# EAGLE library part MAX173* (library Maxim Integrated)
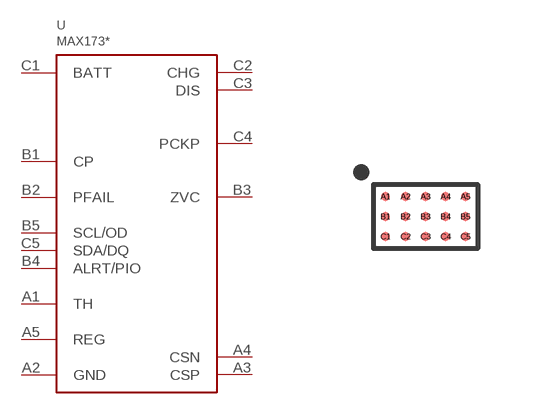
[diagram p7: symbol with the pads of WLP15-1.6; footprint WLP15-1.6]

Designator prefix U

## MAX17300X, MAX17310X  [WLP15-1.6]
A1  TH
A2  GND
A3  CSP
A4  CSN
A5  REG
B1  CP
B2  PFAIL
B3  ZVC
B4  ALRT/PIO
B5  SCL/OD
C1  BATT
C2  CHG
C3  DIS
C4  PCKP
C5  SDA/DQ

## Footprint WLP15-1.6 (pad centres in mm)
smd 0.23 x 0.23: A1 -1,0.5; A2 -0.5,0.5; A3 0,0.5; A4 0.5,0.5; A5 1,0.5; B1 -1,0; B2 -0.5,0; B3 0,0; B4 0.5,0; B5 1,0; C1 -1,-0.5; C2 -0.5,-0.5; C3 0,-0.5; C4 0.5,-0.5; C5 1,-0.5